# Altium schematic symbol library SN74AUP1G08YFPR.SchLib: 2 symbols
Pins are listed as number, name and electrical type; pins without a type are passive.

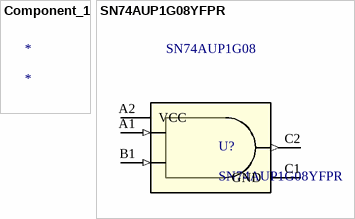
[diagram p0: symbols Component_1 to SN74AUP1G08YFPR]

## Component_1
designator *

## SN74AUP1G08YFPR
designator U?
No Description Available; Mfr_Name: Texas Instruments; Type: DEV; RefDes: RefDes; Copyright: Copyright (C) 2023 Ultra Librarian. All rights reserved.; Manufacturer_Part_Number: SN74AUP1G08YFPR
footprint YFP0006AAAA
pins: A1 A (in), A2 VCC (power), B1 B (in), C1 GND, C2 Y (out)
text: SN74AUP1G08